# EAGLE library part PINHEAD_6P-SHROUDED (library TheMaker_v5)
Amphenol FCI 75869-131LF RS P/N 673-7575
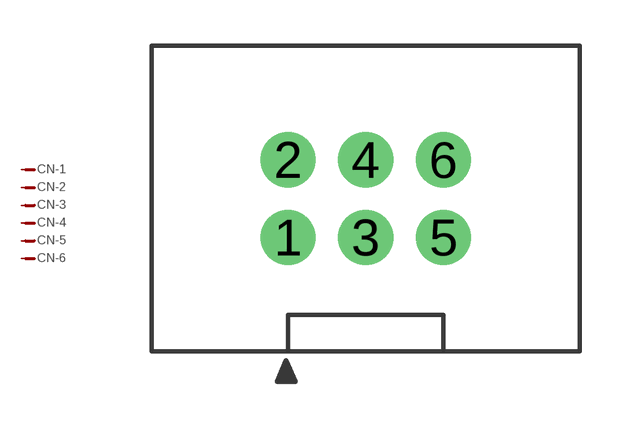
[diagram p9: symbol with the pads of 6PHEADER(S); footprint 6PHEADER(S)]

Designator prefix CN; gates -1=PIN -2=PIN -3=PIN -4=PIN -5=PIN -6=PIN

## PINHEAD_6P-SHROUDED  [6PHEADER(S)]
1  -1:P$1
2  -2:P$1
3  -3:P$1
4  -4:P$1
5  -5:P$1
6  -6:P$1

## Footprint 6PHEADER(S) (pad centres in mm)
drill 1.2: 1 -2.54,-1.27; 2 -2.54,1.27; 3 0,-1.27; 4 0,1.27; 5 2.54,-1.27; 6 2.54,1.27